# EAGLE library part BMI270 (library BMI270)
IMUs - Inertial Measurement Units Smart Ultra-Low Power Inertial Measurement Unit (IMU) for Wearable Applications To check availblity Click Here.! <https://punoscho.in/product/bmi270-6-axis-16bit-imu-sensor/>
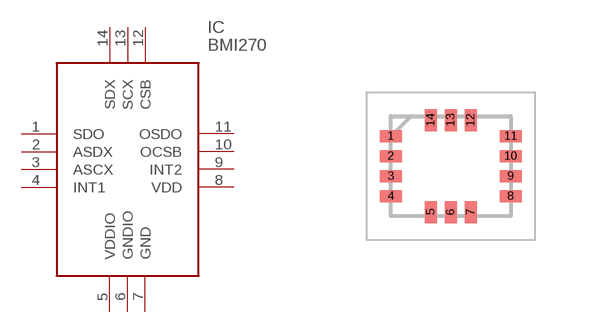
[diagram p0: symbol with the pads of QFN50P300X250X87-14N; footprint QFN50P300X250X87-14N]

Designator prefix IC

## BMI270 (DESCRIPTION: IMUs - Inertial Measurement Units Smart Ultra-Low Power Inertial Measurement Unit (IMU) for Wearable Applications; MFR: BOSCH Sensortec; MFR-PN: BMI270; PACKAGE: 14-VFLGA; SUPPLIER: Punoscho.in; SUPPLIER-PN: PU-0176)  [QFN50P300X250X87-14N]
1  SDO
2  ASDX
3  ASCX
4  INT1
5  VDDIO
6  GNDIO
7  GND
8  VDD
9  INT2
10  OCSB
11  OSDO
12  CSB
13  SCX
14  SDX

## Footprint QFN50P300X250X87-14N (pad centres in mm)
BMI270
smd 0.55 x 0.3: 1 -1.5,0.75; 2 -1.5,0.25; 3 -1.5,-0.25; 4 -1.5,-0.75; 8 1.5,-0.75; 9 1.5,-0.25; 10 1.5,0.25; 11 1.5,0.75
smd 0.3 x 0.55: 5 -0.5,-1.15; 6 0,-1.15; 7 0.5,-1.15; 12 0.5,1.15; 13 0,1.15; 14 -0.5,1.15